# Altium footprint library 研发中心PCB库文件.PcbLib: 333 footprints (part 7 of 21)
Each footprint in its own frame and in the unit in brackets; x right, y up, seen from the top. Pads: shape width x height; smd on the part's side, far side on the other; paste and mask are expansions set on the pad; w line width, h text height; cw(c..) or ccw(c..) is an arc to the next point about the centre after c.
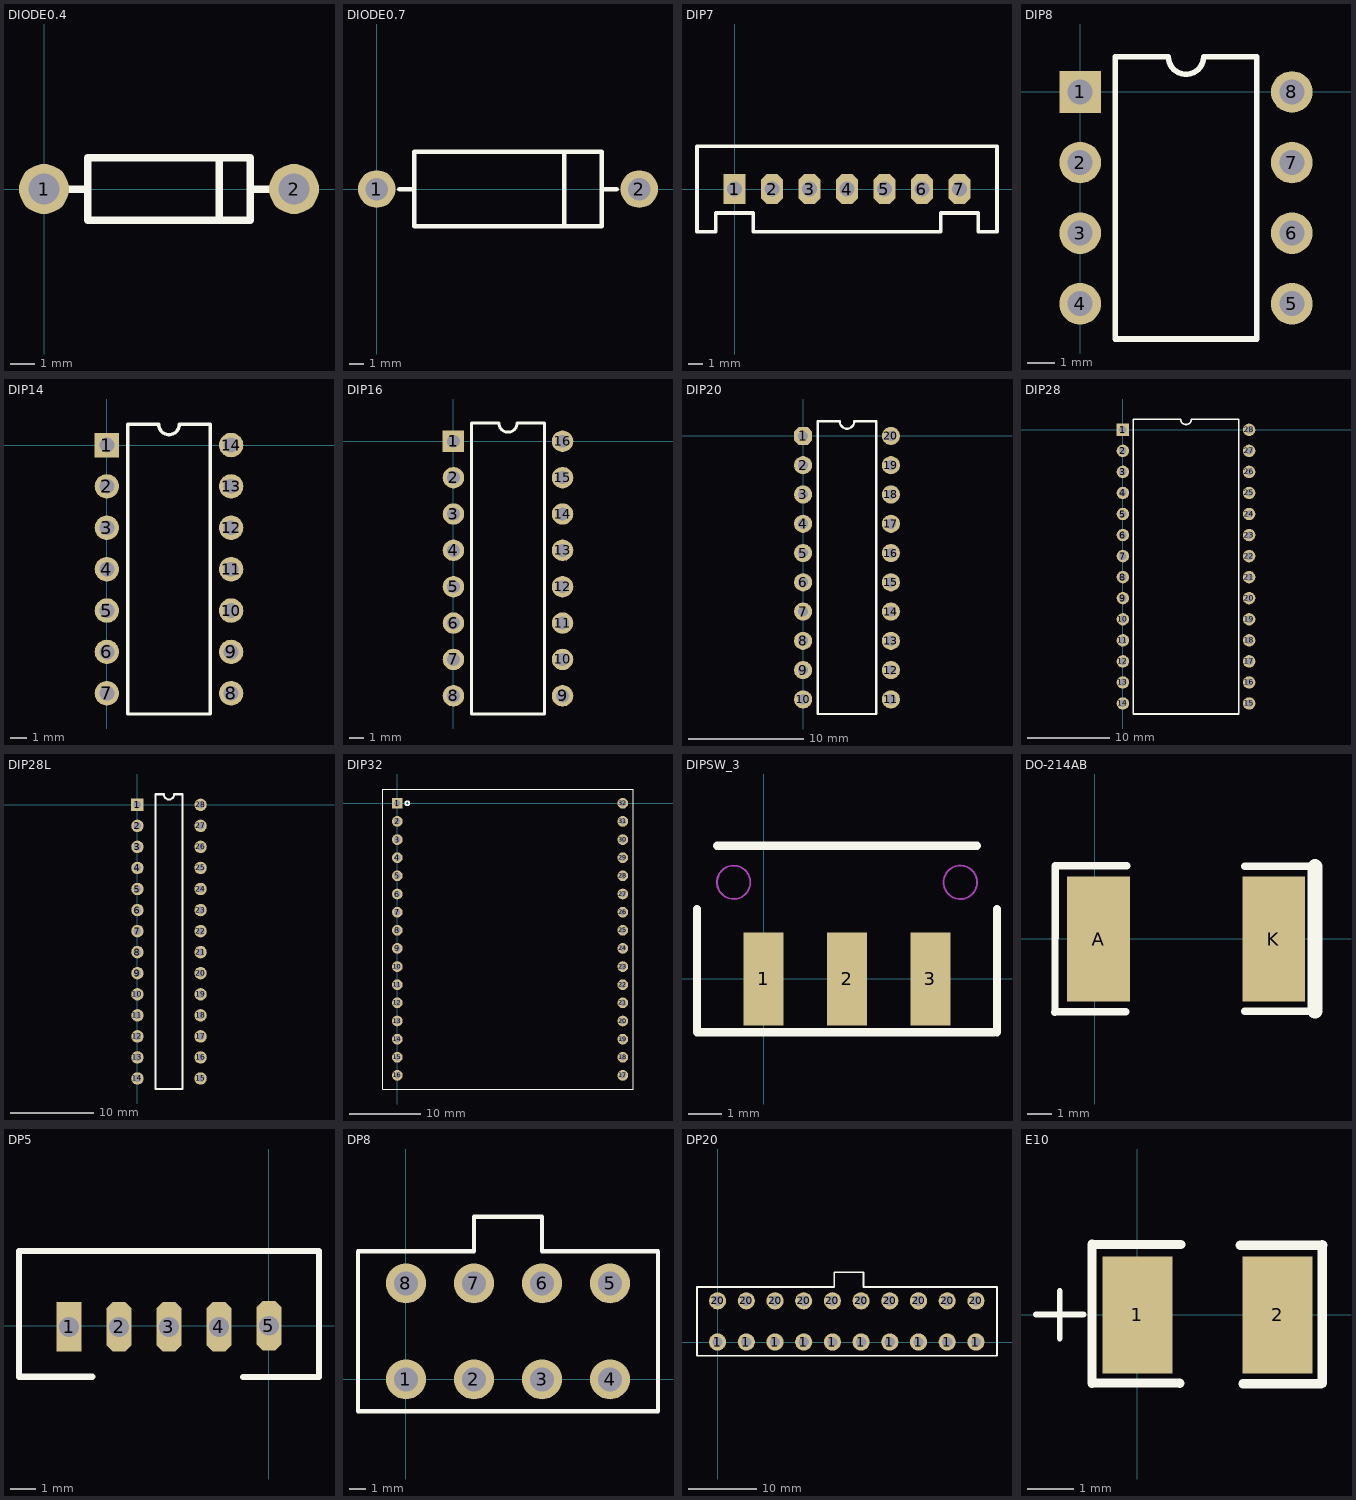
[diagram p6: the footprints below, top view; thin cyan lines are the x and y axes]

## DIODE0.4 [mil]
pads (2):
  round 80 hole 50: 1(0,0) 2(400,0)
Top Overlay:
  lines w12: 40,0 70,0 ; 280,-50 280,50 ; 330,0 360,0 ; 70,-50 70,50 330,50 330,-50 70,-50

## DIODE0.7 [mil]
pads (2):
  round 100 hole 60: 1(0,0) 2(700,0)
Top Overlay:
  lines w12: 60,0 100,0 ; 500,-100 500,100 ; 600,0 640,0 ; 100,-100 100,100 600,100 600,-100 100,-100

## DIP7 [mm]
pads (7):
  rect 1.5x2 hole 1: 1(0,0)
  oct 1.5x2 hole 1: 2(2.54,0) 3(5.08,0) 4(7.62,0) 5(10.16,0) 6(12.7,0) 7(15.24,0)
Top Overlay:
  lines w0.254: -2.54,-2.9 -1.27,-2.9 -1.27,-1.63 1.27,-1.63 1.27,-2.9 13.97,-2.9 13.97,-1.63 16.51,-1.63 16.51,-2.9 17.78,-2.9 17.78,2.9 -2.54,2.9 -2.54,-2.9

## DIP8 [mm]
pads (8):
  rect 1.5x1.5 hole 0.9: 1(0,0)
  round 1.5 hole 0.9: 2(0,-2.54) 3(0,-5.08) 4(0,-7.62) 5(7.62,-7.62) 6(7.62,-5.08) 7(7.62,-2.54) 8(7.62,0)
Top Overlay:
  lines w0.203: 1.27,-8.89 1.27,1.27 3.175,1.27 ccw(c3.81,1.27) 4.445,1.27 6.35,1.27 6.35,-8.89 1.27,-8.89

## DIP14 [mm]
pads (14):
  rect 1.5x1.5 hole 0.9: 1(0,0)
  round 1.5 hole 0.9: 2(0,-2.54) 3(0,-5.08) 4(0,-7.62) 5(0,-10.16) 6(0,-12.7) 7(0,-15.24) 8(7.62,-15.24) 9(7.62,-12.7) 10(7.62,-10.16) 11(7.62,-7.62) 12(7.62,-5.08) 13(7.62,-2.54) 14(7.62,0)
Top Overlay:
  lines w0.203: 1.27,-16.51 1.27,1.27 3.175,1.27 ccw(c3.81,1.27) 4.445,1.27 6.35,1.27 6.35,-16.51 1.27,-16.51

## DIP16 [mm]
pads (16):
  rect 1.5x1.5 hole 0.9: 1(0,0)
  round 1.5 hole 0.9: 2(0,-2.54) 3(0,-5.08) 4(0,-7.62) 5(0,-10.16) 6(0,-12.7) 7(0,-15.24) 8(0,-17.78) 9(7.62,-17.78) 10(7.62,-15.24) 11(7.62,-12.7) 12(7.62,-10.16) 13(7.62,-7.62) 14(7.62,-5.08) 15(7.62,-2.54) 16(7.62,0)
Top Overlay:
  lines w0.203: 1.27,-19.05 1.27,1.27 3.175,1.27 ccw(c3.81,1.27) 4.445,1.27 6.35,1.27 6.35,-19.05 1.27,-19.05

## DIP20 [mil]
pads (20):
  oct 62x62 hole 35: 1(0,0)
  round 62 hole 35: 2(0,-100) 3(0,-200) 4(0,-300) 5(0,-400) 6(0,-500) 7(0,-600) 8(0,-700) 9(0,-800) 10(0,-900) 11(300,-900) 12(300,-800) 13(300,-700) 14(300,-600) 15(300,-500) 16(300,-400) 17(300,-300) 18(300,-200) 19(300,-100) 20(300,0)
Top Overlay:
  lines w7.87: 50,-950 50,50 125,50 ccw(c150,50) 175,50 250,50 250,-950 50,-950

## DIP28 [mm]
pads (28):
  rect 1.5x1.5 hole 0.9: 1(0,0)
  round 1.5 hole 0.9: 2(0,-2.54) 3(0,-5.08) 4(0,-7.62) 5(0,-10.16) 6(0,-12.7) 7(0,-15.24) 8(0,-17.78) 9(0,-20.32) 10(0,-22.86) 11(0,-25.4) 12(0,-27.94) 13(0,-30.48) 14(0,-33.02) 15(15.24,-33.02) 16(15.24,-30.48) 17(15.24,-27.94) 18(15.24,-25.4) 19(15.24,-22.86) 20(15.24,-20.32) 21(15.24,-17.78) 22(15.24,-15.24) 23(15.24,-12.7) 24(15.24,-10.16) 25(15.24,-7.62) 26(15.24,-5.08) 27(15.24,-2.54) 28(15.24,0)
Top Overlay:
  lines w0.203: 1.27,-34.29 13.97,-34.29 13.97,1.27 8.255,1.27 cw(c7.62,1.27) 6.985,1.27 1.27,1.27 1.27,-34.29

## DIP28L [mm]
pads (28):
  rect 1.5x1.5 hole 0.9: 1(0,0)
  round 1.5 hole 0.9: 2(0,-2.54) 3(0,-5.08) 4(0,-7.62) 5(0,-10.16) 6(0,-12.7) 7(0,-15.24) 8(0,-17.78) 9(0,-20.32) 10(0,-22.86) 11(0,-25.4) 12(0,-27.94) 13(0,-30.48) 14(0,-33.02) 15(7.62,-33.02) 16(7.62,-30.48) 17(7.62,-27.94) 18(7.62,-25.4) 19(7.62,-22.86) 20(7.62,-20.32) 21(7.62,-17.78) 22(7.62,-15.24) 23(7.62,-12.7) 24(7.62,-10.16) 25(7.62,-7.62) 26(7.62,-5.08) 27(7.62,-2.54) 28(7.62,0)
Top Overlay:
  lines w0.254: 2.159,-34.29 5.461,-34.29 5.461,1.27 4.445,1.27 cw(c3.81,1.27) 3.175,1.27 2.159,1.27 2.159,-34.29

## DIP32 [mm]
pads (32):
  rect 1.5x1.5 hole 0.9: 1(0,0)
  round 1.5 hole 0.9: 2(0,-2.54) 3(0,-5.08) 4(0,-7.62) 5(0,-10.16) 6(0,-12.7) 7(0,-15.24) 8(0,-17.78) 9(0,-20.32) 10(0,-22.86) 11(0,-25.4) 12(0,-27.94) 13(0,-30.48) 14(0,-33.02) 15(0,-35.56) 16(0,-38.1) 17(31.57,-38.1) 18(31.57,-35.56) 19(31.57,-33.02) 20(31.57,-30.48) 21(31.57,-27.94) 22(31.57,-25.4) 23(31.57,-22.86) 24(31.57,-20.32) 25(31.57,-17.78) 26(31.57,-15.24) 27(31.57,-12.7) 28(31.57,-10.16) 29(31.57,-7.62) 30(31.57,-5.08) 31(31.57,-2.54) 32(31.57,0)
Top Overlay:
  circle w0.254: c1.4,0 r0.283
  lines w0.102: -2,-40 -2,2 33,2 33,-40 -2,-40

## DIPSW_3 [mm]
pads (3):
  rect 1.2x2.8 smd: 1(0,0) 2(2.5,0) 3(5,0)
Top Overlay:
  lines w0.254: -2,2.1 -2,-1.6 6.9,-1.6 ; -1.4,4 6.4,4 ; 7,-1.6 7,2.1
Keep-Out Layer:
  circle w0.05: c5.9,2.9 r0.51
  circle w0.05: c-0.9,2.9 r0.5
Mechanical 1:
  circle w0.05: c5.9,2.9 r0.5
  circle w0.05: c-0.9,2.9 r0.5

## DO-214AB [mm]
pads (2):
  rect 2.54x5.08 smd: A(0.15,-0.021) K(7.262,-0.021)
Top Overlay:
  lines w0.305: -1.618,-3.004 -1.616,2.951 ; -1.607,2.968 1.299,2.968 ; -1.541,-2.983 1.259,-2.983 ; 6.088,2.939 8.917,2.938 ; 6.096,-2.951 8.843,-2.951
  lines w0.6: 8.949,-2.951 8.949,2.929

## DP5 [mm]
pads (5):
  rect 1x2 hole 0.8: 1(-8,-0.041)
  oct 1x2 hole 0.8: 2(-6,-0.041) 3(-4,-0.041) 4(-2,-0.041) 5(0,0)
Top Overlay:
  lines w0.254: -10.006,2.992 -10.006,-2.041 -7.067,-2.041 ; -10,2.994 -0.033,2.994 2.006,2.994 ; -1.021,-2.054 2.006,-2.054 2.006,2.981

## DP8 [mm]
pads (8):
  round 2.5 hole 1.5: 1(0,0) 2(4.25,0) 3(8.5,0) 4(12.75,0) 5(12.75,6) 6(8.5,6) 7(4.25,6) 8(0,6)
Top Overlay:
  lines w0.254: -3,-2 -3,8 4.25,8 4.25,10.16 8.5,10.16 8.5,8 15.75,8 15.75,-2 -3,-2

## DP20 [mm]
pads (20):
  round 2.5 hole 1.5: 1(0,0) 1(4.18,0) 1(8.36,0) 1(12.54,0) 1(16.72,0) 1(20.9,0) 1(25.08,0) 1(29.26,0) 1(33.44,0) 1(37.62,0) 20(0,6) 20(4.18,6) 20(8.36,6) 20(12.54,6) 20(16.72,6) 20(20.9,6) 20(25.08,6) 20(29.26,6) 20(33.44,6) 20(37.62,6)
Top Overlay:
  lines w0.254: 40,8 40.691,8 40.691,-2 -3,-2 -3,8 17,8 17,10.16 21.25,10.16 21.25,8 40.47,8

## E10 [mm]
pads (2):
  rect 1.5x2.5 smd: 1(0,0) 2(3,0)
Top Overlay:
  lines w0.127: -2.172,0.009 -1.156,0.009 ; -1.664,-0.499 -1.664,0.517
  lines w0.2: -0.974,-1.463 -0.974,1.503 ; -0.974,1.512 0.928,1.508 ; -0.956,-1.452 0.906,-1.458 ; 2.197,1.494 3.972,1.494 ; 2.26,-1.47 3.936,-1.47 ; 3.954,-1.461 3.954,1.503